# EAGLE library part TPL0401 (library ti)
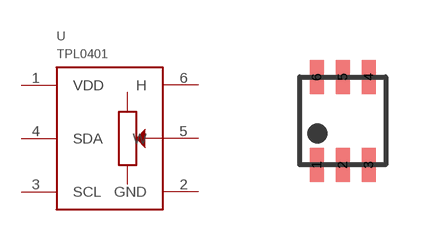
[diagram p5: symbol with the pads of SC-70-DCK; footprint SC-70-DCK]

Designator prefix U

## TPL0401, TPL0401A  [SC-70-DCK]
1  VDD  pwr
2  GND  pwr
3  SCL
4  SDA
5  W
6  H

## Footprint SC-70-DCK (pad centres in mm)
smd 0.35 x 0.85: 1 -0.65,-1.1; 2 0,-1.1; 3 0.65,-1.1; 4 0.65,1.1; 5 0,1.1; 6 -0.65,1.1